# Altium schematic symbol library SSW-103-01-G-D.SchLib: 1 symbol
Pins are listed as number, name and electrical type; pins without a type are passive.

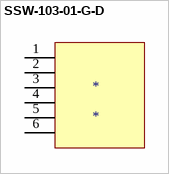
[diagram p0: symbol SSW-103-01-G-D]

## SSW-103-01-G-D
designator *
footprint SSW-103-01-G-D
pins: 1, 2, 3, 4, 5, 6